# Altium footprint library RemoteController.PcbLib: 1 footprints
Each footprint in its own frame and in the unit in brackets; x right, y up, seen from the top. Pads: shape width x height; smd on the part's side, far side on the other; paste and mask are expansions set on the pad; w line width, h text height; cw(c..) or ccw(c..) is an arc to the next point about the centre after c.
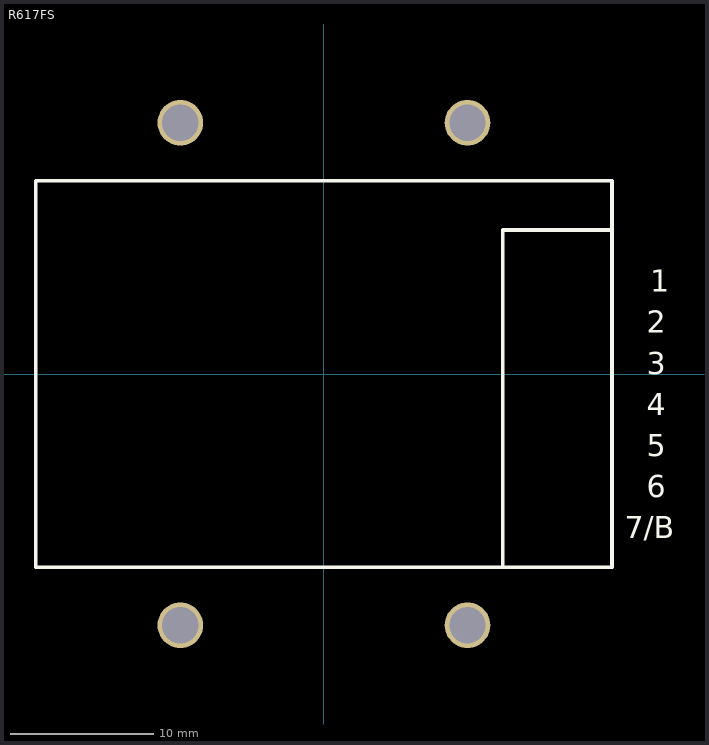
[diagram p0: the footprint, top view; thin cyan lines are the x and y axes]

## R617FS [mm] "Futaba R617FS 7-Channel 2.4GHz FASST Receiver"
pads (4):
  round 3.175 hole 2.54: ""(-10,-17.5) ""(-10,17.5) ""(10,-17.5) ""(10,17.5)
Top Overlay:
  lines w0.254: 12.446,-13.462 12.446,10.033 20.066,10.033 ; -20.066,-13.462 20.066,-13.462 20.066,13.462 -20.066,13.462 -20.066,-13.462
  text "1" at 22.732,5.715 h1.52
  text "2" at 22.479,2.857 h1.52
  text "3" at 22.479,0 h1.52
  text "4" at 22.479,-2.857 h1.52
  text "5" at 22.479,-5.715 h1.52
  text "6" at 22.479,-8.572 h1.52
  text "7/B" at 20.955,-11.43 h1.52
3D body: height 9, standoff 0, extent -19.939,-13.589 20.061,13.411